# EAGLE library part STACKED_DB_15- (library 000_ICS)
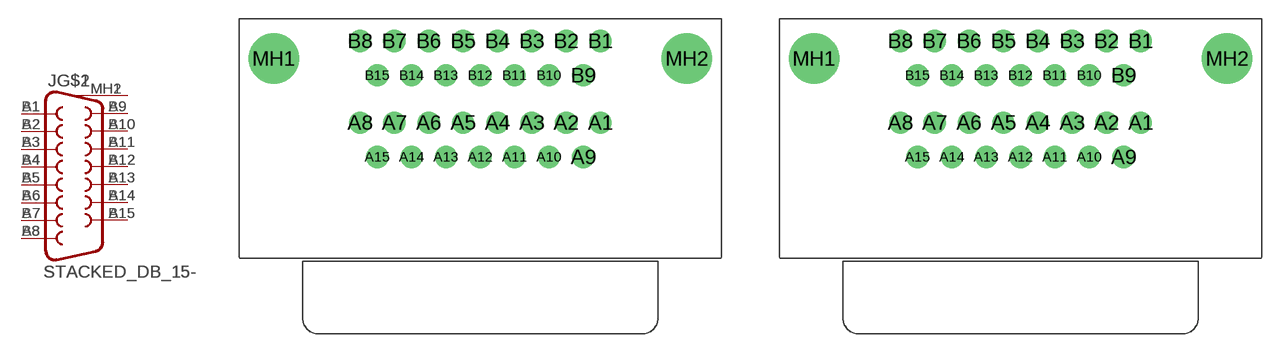
[diagram p25: symbol with the pads of 178-015-513RXXX; footprints 178-015-513RXXX, 189-015-513RXXX]

Designator prefix J; gates G$1=F15 G$2=F15

## STACKED_DB_15-1.25_HEIGHT_NO_FRONT_HOLES (MFR: NorComp; MPN: ‎178-015-513RXXX; PRICE: 9.71)  [178-015-513RXXX]
A1  G$1:1  pas
A2  G$1:2  pas
A3  G$1:3  pas
A4  G$1:4  pas
A5  G$1:5  pas
A6  G$1:6  pas
A7  G$1:7  pas
A8  G$1:8  pas
A9  G$1:9  pas
A10  G$1:10  pas
A11  G$1:11  pas
A12  G$1:12  pas
A13  G$1:13  pas
A14  G$1:14  pas
A15  G$1:15  pas
B1  G$2:1  pas
B2  G$2:2  pas
B3  G$2:3  pas
B4  G$2:4  pas
B5  G$2:5  pas
B6  G$2:6  pas
B7  G$2:7  pas
B8  G$2:8  pas
B9  G$2:9  pas
B10  G$2:10  pas
B11  G$2:11  pas
B12  G$2:12  pas
B13  G$2:13  pas
B14  G$2:14  pas
B15  G$2:15  pas
MH1  G$1:MH  pas
MH2  G$2:MH  pas

## STACKED_DB_15-  [189-015-513RXXX]

## Footprint 178-015-513RXXX (pad centres in mm)
drill 1.194: A1 9.69,0; A2 6.921,0; A3 4.153,0; A4 1.384,0; A5 -1.384,0; A6 -4.153,0; A7 -6.921,0; A8 -9.69,0; A9 8.306,-2.769; A10 5.537,-2.769; A11 2.769,-2.769; A12 0,-2.769; A13 -2.769,-2.769; A14 -5.537,-2.769; A15 -8.306,-2.769; B1 9.69,6.579; B2 6.921,6.579; B3 4.153,6.579; B4 1.384,6.579; B5 -1.384,6.579; B6 -4.153,6.579; B7 -6.921,6.579; B8 -9.69,6.579; B9 8.306,3.81; B10 5.537,3.81; B11 2.769,3.81; B12 0,3.81; B13 -2.769,3.81; B14 -5.537,3.81; B15 -8.306,3.81
drill 3.048: MH1 -16.65,5.156; MH2 16.65,5.156

## Footprint 189-015-513RXXX (pad centres in mm)
drill 1.194: A1 9.69,0; A2 6.921,0; A3 4.153,0; A4 1.384,0; A5 -1.384,0; A6 -4.153,0; A7 -6.921,0; A8 -9.69,0; A9 8.306,-2.769; A10 5.537,-2.769; A11 2.769,-2.769; A12 0,-2.769; A13 -2.769,-2.769; A14 -5.537,-2.769; A15 -8.306,-2.769; B1 9.69,6.579; B2 6.921,6.579; B3 4.153,6.579; B4 1.384,6.579; B5 -1.384,6.579; B6 -4.153,6.579; B7 -6.921,6.579; B8 -9.69,6.579; B9 8.306,3.81; B10 5.537,3.81; B11 2.769,3.81; B12 0,3.81; B13 -2.769,3.81; B14 -5.537,3.81; B15 -8.306,3.81
drill 3.048: MH1 -16.65,5.156; MH2 16.65,5.156